# Altium schematic symbol library test-tp_jumper.SchLib: 42 symbols
Pins are listed as number, name and electrical type; pins without a type are passive.

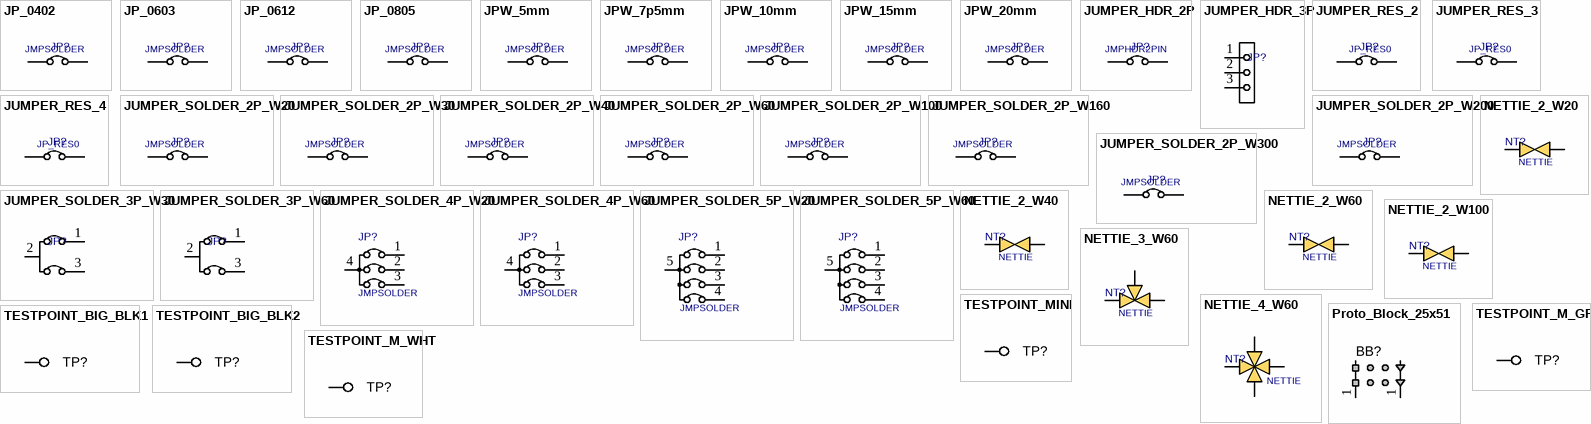
[diagram p0: symbols JP_0402 to TESTPOINT_MINI]

## JP_0402
designator JP?, comment JMPSOLDER  (no BOM)
JUMPER; MANF: MANF; MANF_P#: MANF_P#; VALUE: JMPSOLDER
footprint JP_0402IR (JUMPER 0402 for Iran)
pins: 1, 2

## JP_0603
designator JP?, comment JMPSOLDER  (no BOM)
JUMPER; MANF: MANF; MANF_P#: MANF_P#; VALUE: JMPSOLDER
footprint JP_0603 (CHIP Resistor 1/10 WATT, 1.6x0.8mm, 0603, 1608)
footprint JP_0603IR (JUMPER 0603 for Iran)
footprint JP_0603IRT (JUMPER 0603 for triple jumper placement)
pins: 1, 2

## JP_0612
designator JP?, comment JMPSOLDER  (no BOM)
JUMPER; MANF: MANF; MANF_P#: MANF_P#; VALUE: JMPSOLDER
footprint JP_0612 (CHIP RESISTOR 1/4 WATT, Body 1.6x3.2mm, 1632, 0612)
pins: 1, 2

## JP_0805
designator JP?, comment JMPSOLDER  (no BOM)
JUMPER; MANF: MANF; MANF_P#: MANF_P#; VALUE: JMPSOLDER
footprint JP_0805 (CHIP RESISTOR 1/8 WATT ,2.0X1.3mm, 0805, 2012)
footprint JP_0805IR (JUMPER 0805 for Iran)
footprint JP_0805IRT (JUMPER 0805 for Iran)
pins: 1, 2

## JPW_5mm
designator JP?, comment JMPSOLDER  (no BOM)
JUMPER WIRE; MANF: MANF; MANF_P#: MANF_P#; VALUE: JMPSOLDER
footprint JPW_5MM (5.08 mm (200mil) Jumper wire)
pins: 1, 2

## JPW_7p5mm
designator JP?, comment JMPSOLDER  (no BOM)
JUMPER WIRE; MANF: MANF; MANF_P#: MANF_P#; VALUE: JMPSOLDER
footprint JPW_7P6MM (7.62 mm (300 mil) Jumper wire)
pins: 1, 2

## JPW_10mm
designator JP?, comment JMPSOLDER  (no BOM)
JUMPER WIRE; MANF: MANF; MANF_P#: MANF_P#; VALUE: JMPSOLDER
footprint JPW_10MM (10.16 mm (400 mil) Jumper wire)
pins: 1, 2

## JPW_15mm
designator JP?, comment JMPSOLDER  (no BOM)
JUMPER WIRE; MANF: MANF; MANF_P#: MANF_P#; VALUE: JMPSOLDER
footprint JPW_15MM (15.24 mm (600 mil) Jumper wire)
pins: 1, 2

## JPW_20mm
designator JP?, comment JMPSOLDER  (no BOM)
JUMPER WIRE; MANF: MANF; MANF_P#: MANF_P#; VALUE: JMPSOLDER
footprint JPW_20MM (20.32 mm (800 mil) Jumper wire)
pins: 1, 2

## JUMPER_HDR_2P
designator JP?, comment JMPHDR2PIN
JUMPER, HEADER 2PIN; MANF: MANF; MANF_P#: MANF_P#; VALUE: JMPHDR2PIN
footprint JPH_2 (Jumper Header 2.54mm Pitch, Vertical)
footprint JPH_2_BLU (Jumper Header 2.54mm Pitch, Vertical, BLUE)
footprint JPH_2_BLK (Jumper Header 2.54mm Pitch, Vertical, BLACK)
footprint JPH_2_RED (Jumper Header 2.54mm Pitch, Vertical, RED)
footprint JPH_2_GRN (Jumper Header 2.54mm Pitch, Vertical, GREEN)
pins: 1, 2

## JUMPER_HDR_3P
designator JP?, comment JMPHDR3PIN  (value not drawn)
JUMPER, HEADER 3PIN; MANF: MANF; MANF_P#: MANF_P#; VALUE: JMPHDR3PIN
footprint JPH_3 (Jumper Header 2.54mm Pitch, 3PIN, Vertical)
pins: 1, 2, 3

## JUMPER_RES_2
designator JP?, comment JP_RES0  (net tie)
JUMPER, RESISTOR 0 Ohm; MANF: MANF; MANF_P#: MANF_P#; VALUE: JP_RES0
footprint JP_RES0_AX2 (JUMPER, RESISTOR 0 Ohm 1/8Watt, Axial 0.24Inch)
pins: 1, 2

## JUMPER_RES_3
designator JP?, comment JP_RES0  (net tie)
JUMPER, RESISTOR 0 Ohm; MANF: MANF; MANF_P#: MANF_P#; VALUE: JP_RES0
footprint JP_RES0_AX3 (JUMPER, RESISTOR 0 Ohm 1/8Watt, Axial0.3Inch)
pins: 1, 2

## JUMPER_RES_4
designator JP?, comment JP_RES0  (net tie)
JUMPER, RESISTOR 0 Ohm; MANF: MANF; MANF_P#: MANF_P#; VALUE: JP_RES0
footprint JP_RES0_AX4 (0 Ohm Jumper Resistor)
pins: 1, 2

## JUMPER_SOLDER_2P_W20
designator JP?, comment JMPSOLDER  (no BOM)
JUMPER, solder, 2pin, 0.2mm width; MANF: MANF; MANF_P#: MANF_P#; VALUE: JMPSOLDER
footprint JPS_2_W20 (JUMPER SOLDER 0.2X0.5MM)
pins: 1, 2

## JUMPER_SOLDER_2P_W30
designator JP?, comment JMPSOLDER  (no BOM)
JUMPER, solder, 2pin, 0.3mm width; MANF: MANF; MANF_P#: MANF_P#; VALUE: JMPSOLDER
footprint JPS_2_W30 (JUMPER SOLDER 0.3X0.5MM)
pins: 1, 2

## JUMPER_SOLDER_2P_W40
designator JP?, comment JMPSOLDER  (no BOM)
JUMPER, solder, 2pin, 0.4mm width; MANF: MANF; MANF_P#: MANF_P#; VALUE: JMPSOLDER
footprint JPS_2_W40 (JUMPER SOLDER 0.4X0.5MM)
pins: 1, 2

## JUMPER_SOLDER_2P_W60
designator JP?, comment JMPSOLDER  (no BOM)
JUMPER, solder, 2pin, 0.6mm width; MANF: MANF; MANF_P#: MANF_P#; VALUE: JMPSOLDER
footprint JPS_2_W60 (JUMPER SOLDER 0.6X0.5MM)
pins: 1, 2

## JUMPER_SOLDER_2P_W100
designator JP?, comment JMPSOLDER  (no BOM)
JUMPER, solder, 2pin, 1mm width; MANF: MANF; MANF_P#: MANF_P#; VALUE: JMPSOLDER
footprint JPS_2_W100 (JUMPER SOLDER 1X0.6MM)
pins: 1, 2

## JUMPER_SOLDER_2P_W160
designator JP?, comment JMPSOLDER  (no BOM)
JUMPER, solder, 2pin, 1.6mm width; MANF: MANF; MANF_P#: MANF_P#; VALUE: JMPSOLDER
footprint JPS_2_W160 (JUMPER SOLDER 1.6X0.6MM)
pins: 1, 2

## JUMPER_SOLDER_2P_W200
designator JP?, comment JMPSOLDER  (no BOM)
JUMPER, solder, 2pin, 2mm width; MANF: MANF; MANF_P#: MANF_P#; VALUE: JMPSOLDER
footprint JPS_2_W200 (JUMPER SOLDER 2X0.6MM)
pins: 1, 2

## JUMPER_SOLDER_2P_W300
designator JP?, comment JMPSOLDER  (no BOM)
JUMPER, solder, 2pin, 3mm width; MANF: MANF; MANF_P#: MANF_P#; VALUE: JMPSOLDER
footprint JPS_2_W300 (JUMPER SOLDER 3X1MM)
pins: 1, 2

## JUMPER_SOLDER_3P_W30
designator JP?, comment JMPHDR3PIN  (value not drawn)  (no BOM)
JUMPER, solder, 3pin, 0.3mm width; MANF: MANF; MANF_P#: MANF_P#; VALUE: JMPHDR3PIN
footprint JPS_3_W40 (JUMPER SOLDER 0.4X0.9MM)
pins: 1, 2, 3

## JUMPER_SOLDER_3P_W60
designator JP?, comment JMPHDR3PIN  (value not drawn)  (no BOM)
JUMPER, solder, 3pin, 0.6mm width; MANF: MANF; MANF_P#: MANF_P#; VALUE: JMPHDR3PIN
footprint JPS_3_W60 (JUMPER SOLDER 0.6X1.6mm)
pins: 1, 2, 3

## JUMPER_SOLDER_4P_W20
designator JP?, comment JMPSOLDER  (no BOM)
JUMPER, solder for 3 select options, 0.2mm width; MANF: MANF; MANF_P#: MANF_P#; VALUE: JMPSOLDER
footprint JPS_4_W20 (JUMPER SOLDER TINY, 1.1x0.75mm)
pins: 1, 2, 3, 4

## JUMPER_SOLDER_4P_W60
designator JP?, comment JMPSOLDER  (no BOM)
JUMPER, solder for 3 select options, 0.6mm width; MANF: MANF; MANF_P#: MANF_P#; VALUE: JMPSOLDER
footprint JPS_4_W60 (JUMPER SOLDER 0.6mm width)
pins: 1, 2, 3, 4

## JUMPER_SOLDER_5P_W20
designator JP?, comment JMPSOLDER  (no BOM)
JUMPER, solder for 4 select options, 0.2mm width; MANF: MANF; MANF_P#: MANF_P#; VALUE: JMPSOLDER
footprint JPS_5_W20 (JUMPER SOLDER TINY, 1.1x0.75mm)
pins: 1, 2, 3, 4, 5

## JUMPER_SOLDER_5P_W60
designator JP?, comment JMPSOLDER  (no BOM)
JUMPER, solder for 4 select options, 0.6mm width; MANF: MANF; MANF_P#: MANF_P#; VALUE: JMPSOLDER
footprint JPS_5_W60 (JUMPER SOLDER 0.6mm width)
pins: 1, 2, 3, 4, 5

## NETTIE_2_W20
designator NT?, comment NETTIE  (net tie, no BOM)
NET TIE, 2pin, 0.2mm width; MANF: -; MANF_P#: -; VALUE: NETTIE
footprint NETTIE_2_W20 (NET TIE, 2pin, 0.2mm width)
pins: 1, 2

## NETTIE_2_W40
designator NT?, comment NETTIE  (net tie, no BOM)
NET TIE, 2pin, 0.4mm width; MANF: -; MANF_P#: -; VALUE: NETTIE
footprint NETTIE_2_W40 (NET TIE 0.4mm width)
pins: 1, 2

## NETTIE_2_W60
designator NT?, comment NETTIE  (net tie, no BOM)
NET TIE, 2pin, 0.6mm width; MANF: -; MANF_P#: -; VALUE: NETTIE
footprint NETTIE_2_W60 (NET TIE, 2pin, 0.6mm width)
pins: 1, 2

## NETTIE_2_W100
designator NT?, comment NETTIE  (net tie, no BOM)
NET TIE, 2pin, 1mm width; MANF: -; MANF_P#: -; VALUE: NETTIE
footprint NETTIE_2_W100 (NET TIE, 2pin, 1mm width)
pins: 1, 2

## NETTIE_3_W60
designator NT?, comment NETTIE  (net tie, no BOM)
NET TIE, 3pin, 0.6mm width; MANF: -; MANF_P#: -; VALUE: NETTIE
footprint NETTIE_3_W60 (NET TIE, 3pin, 0.6mm width)
pins: 1, 2, 3

## NETTIE_4_W60
designator NT?, comment NETTIE  (net tie, no BOM)
NET TIE, 4pin, 0.6mm width; MANF: -; MANF_P#: -; VALUE: NETTIE
footprint NETTIE_4_W60 (NET TIE, 4pin, 0.6mm width)
pins: 1, 2, 3, 4

## Proto_Block_25x51
designator BB?  (value not drawn)  (no BOM)
MANF: MANF; MANF_P#: MANF_P#; VALUE: VALUE
footprint BreadBoard_25x51 (Small 1"x2" breadboard section)
pins: 1, 1 0

## TESTPOINT_BIG_BLK1
designator TP?  (value not drawn)  (no BOM)
TEST POINT; MANF: MANF; MANF_P#: MANF_P#; VALUE: TESTPOINT_BIG_BLK1
footprint TPTHD_C_BLK1 (Thru-hole test point loop)
pins: 1

## TESTPOINT_BIG_BLK2
designator TP?  (value not drawn)  (no BOM)
TEST POINT; MANF: MANF; MANF_P#: MANF_P#; VALUE: TESTPOINT_BIG_BLK2
footprint TPTHD_C_BLK2 (Thru-hole test point loop)
pins: 1

## TESTPOINT_M_GRN
designator TP?  (value not drawn)  (no BOM)
TEST POINT; MANF: MANF; MANF_P#: MANF_P#; VALUE: TESTPOINT_M_GRN
footprint TPTHD_B_GRN (TEST POINT KEYSTONE 2.5mm WITH 1 mm Hole Diameter)
pins: 1

## TESTPOINT_M_WHT
designator TP?  (value not drawn)  (no BOM)
TEST POINT; MANF: MANF; MANF_P#: MANF_P#; VALUE: TESTPOINT_M_WHT
footprint TPTHD_B_WHT (TEST POINT KEYSTONE 2.5mm WITH 1 mm Hole Diameter)
pins: 1

## TESTPOINT_MINI
designator TP?  (value not drawn)  (no BOM)
TEST POINT; MANF: MANF; MANF_P#: MANF_P#; VALUE: TESTPOINT_MINI
footprint TPTHD_A (TEST POINT, SMALLEST SIZE)
pins: 1

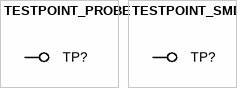
[diagram p1: symbols TESTPOINT_PROBE to TESTPOINT_SMD]

## TESTPOINT_PROBE
designator TP?  (value not drawn)  (no BOM)
TEST POINT; MANF: MANF; MANF_P#: MANF_P#; VALUE: TESTPOINT_PROBE
footprint TP80D50
pins: 1

## TESTPOINT_SMD
designator TP?  (value not drawn)  (no BOM)
TEST POINT; MANF: MANF; MANF_P#: MANF_P#; VALUE: TESTPOINT_SMD
footprint TPSMD_S1 (Test Point, SMD Pad, Circle, 1mm X 1mm)
pins: 1